# Altium footprint library Connectors.PcbLib: 35 footprints (part 2 of 3)
Each footprint in its own frame and in the unit in brackets; x right, y up, seen from the top. Pads: shape width x height; smd on the part's side, far side on the other; paste and mask are expansions set on the pad; w line width, h text height; cw(c..) or ccw(c..) is an arc to the next point about the centre after c.
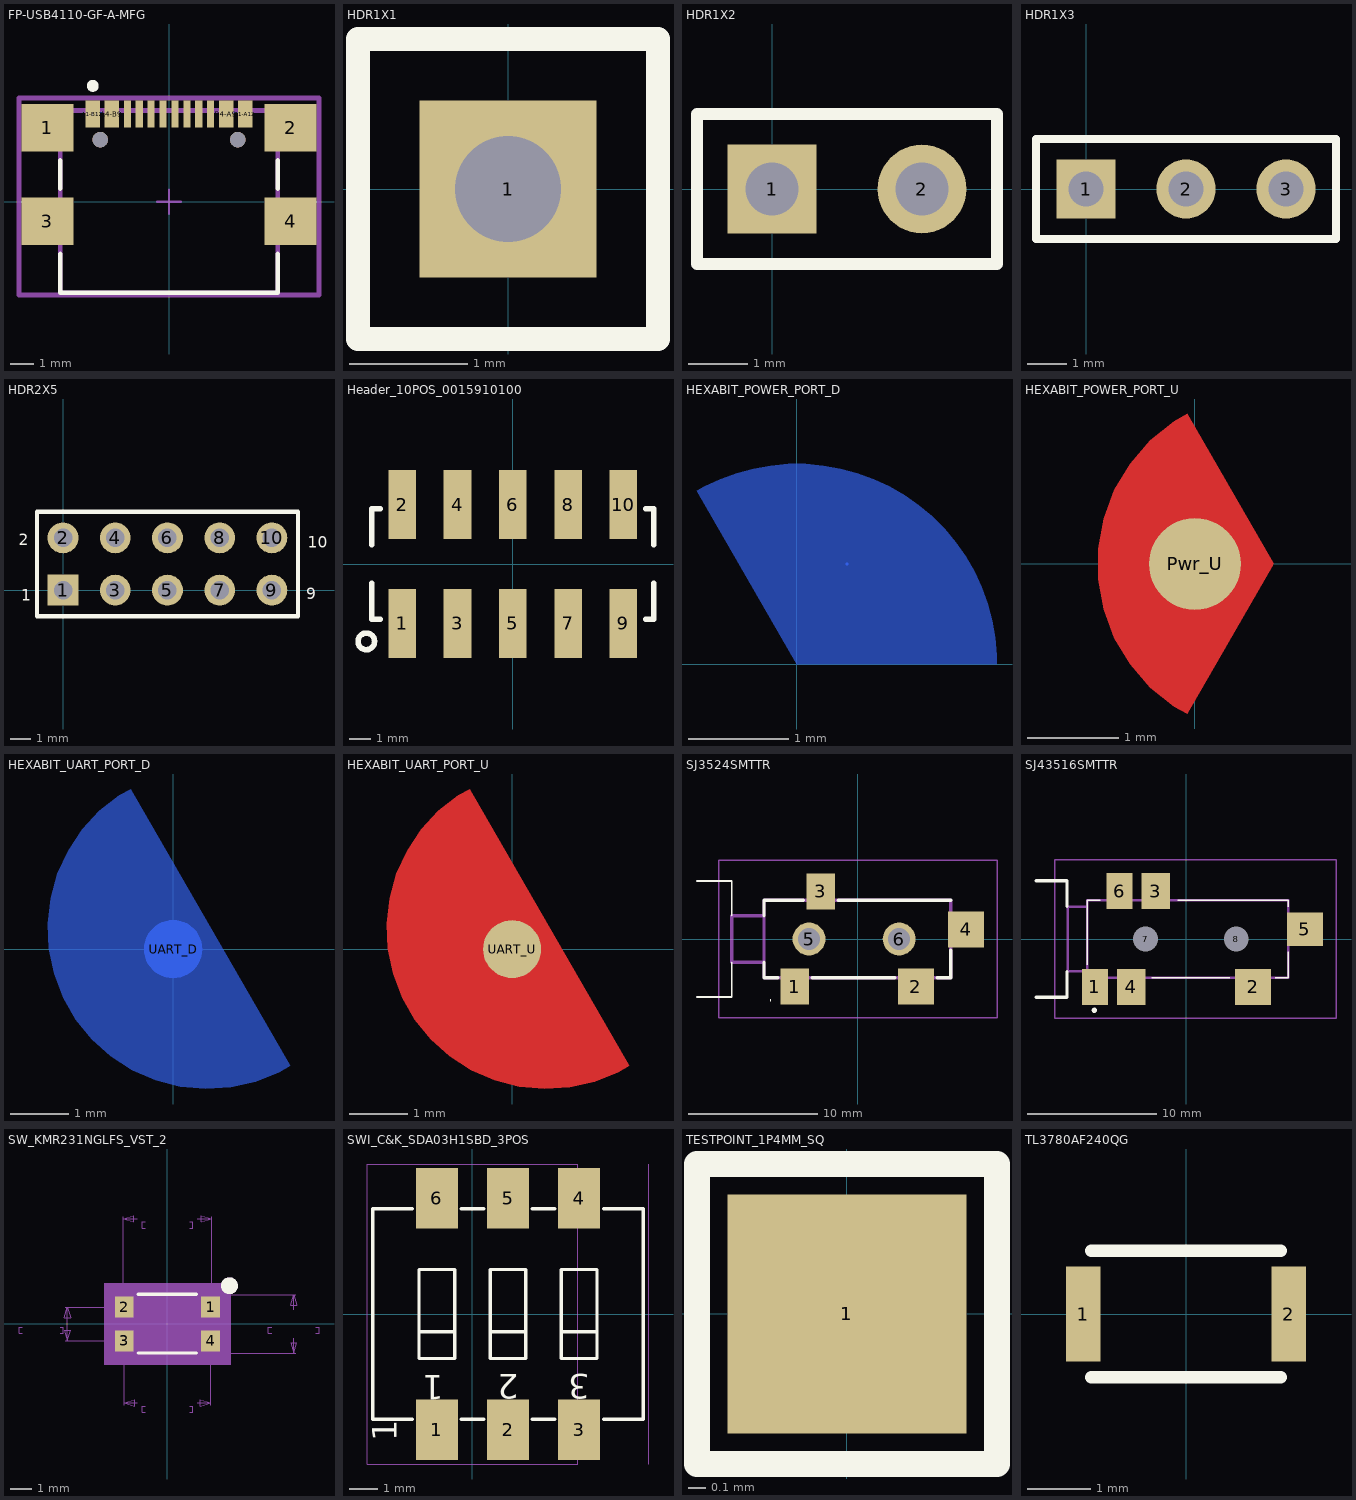
[diagram p1: the footprints below, top view; thin cyan lines are the x and y axes]

## FP-USB4110-GF-A-MFG [mm]
pads (18):
  rect 2.18x2 smd paste+0 mask+0.025: 1(-5.11,3.105) 2(5.11,3.105) 3(-5.11,-0.825) 4(5.11,-0.825)
  rect 0.6x1.15 smd paste+0 mask+0.025: A1-B12(-3.2,3.68) A4-B9(-2.4,3.68) B1-A12(3.2,3.68) B4-A9(2.4,3.68)
  rect 0.3x1.15 smd paste+0 mask+0.025: A5(-1.25,3.68) A6(-0.25,3.68) A7(0.25,3.68) A8(1.25,3.68) B5(1.75,3.68) B6(0.75,3.68) B7(-0.75,3.68) B8(-1.75,3.68)
  round 0.65 hole 0.65 unplated paste-2539.97 mask+0.025: ""(-2.89,2.605) ""(2.89,2.605)
Top Overlay:
  circle w0.25: c-3.201,4.865 r0.125
  lines w0.2: -4.57,-2.2 -4.57,-3.825 4.57,-3.825 4.57,-2.2 ; -4.57,0.55 -4.57,1.73 ; 4.57,0.55 4.57,1.73
Top Courtyard:
  lines w0.2: -6.3,-3.925 -6.3,4.355 6.3,4.355 6.3,-3.925 -6.3,-3.925
Top 3D Body:
  lines w0.2: -4.57,-3.825 -4.57,3.825 4.57,3.825 4.57,-3.825 -4.57,-3.825
Top Assembly:
  lines w0.2: -6.3,-3.925 -6.3,4.355 6.3,4.355 6.3,-3.925 -6.3,-3.925
  text ".Designator" at 0,0.403 h1
Top Component Center:
  lines w0.1: -0.5,0 0.5,0 ; 0,-0.5 0,0.5
3D body "Conn_GCT_USB4110-GF-A_eec.STEP": height 0.25, standoff 0, extent -6.3,-3.925 6.3,4.355

## HDR1X1 [mm]
pads (1):
  rect 1.5x1.5 hole 0.9: 1(0,0)
Top Overlay:
  lines w0.2: -1.27,-1.27 -1.27,1.27 1.27,1.27 1.27,-1.27 -1.27,-1.27

## HDR1X2 [mm]
pads (2):
  rect 1.5x1.5 hole 0.9: 1(0,0)
  round 1.5 hole 0.9: 2(2.54,0)
Top Overlay:
  lines w0.2: -1.27,-1.27 3.81,-1.27 3.81,1.27 -1.27,1.27 -1.27,-1.27

## HDR1X3 [mm]
pads (3):
  rect 1.5x1.5 hole 0.9: 1(0,0)
  round 1.5 hole 0.9: 2(2.54,0) 3(5.08,0)
Top Overlay:
  lines w0.2: -1.27,-1.27 -1.27,1.27 6.35,1.27 6.35,-1.27 -1.27,-1.27

## HDR2X5 [mm]
pads (10):
  rect 1.5x1.5 hole 0.9: 1(0,0)
  round 1.5 hole 0.9: 2(0,2.54) 3(2.54,0) 4(2.54,2.54) 5(5.08,0) 6(5.08,2.54) 7(7.62,0) 8(7.62,2.54) 9(10.16,0) 10(10.16,2.54)
Top Overlay:
  lines w0.2: -1.27,-1.27 -1.27,3.81 11.43,3.81 11.43,-1.27 -1.27,-1.27
  text "2" at -2.14,2.193 h0.56
  text "1" at -2.032,-0.508 h0.56
  text "9" at 11.828,-0.452 h0.56
  text "10" at 11.89,2.062 h0.56

## Header_10POS_0015910100 [mm]
pads (10):
  rect 1.27x3.18 smd: 1(-5.08,-2.73) 2(-5.08,2.73) 3(-2.54,-2.73) 4(-2.54,2.73) 5(0,-2.73) 6(0,2.73) 7(2.54,-2.73) 8(2.54,2.73) 9(5.08,-2.73) 10(5.08,2.73)
Top Overlay:
  circle w0.254: c-6.731,-3.556 r0.381
  lines w0.254: -6.477,-0.889 -6.477,-2.54 -6.1,-2.54 ; -6.477,0.889 -6.477,2.54 -6.1,2.54 ; 6.1,-2.54 6.477,-2.54 6.477,-0.889 ; 6.1,2.54 6.461,2.54 6.477,2.54 6.477,0.889
3D body "0015910100.stp": height 9.65, standoff 0, extent -6.35,-3.492 6.35,3.492

## HEXABIT_POWER_PORT_D [mm]
pads (1):
  round 0.025 smd far side: Pwr_D(0.5,1)
Bottom Layer:
  region: -1,1.732 -0.924,1.776 -0.766,1.85 -0.602,1.909 -0.433,1.954 -0.261,1.985 -0.087,2 0.087,2 0.261,1.985 0.433,1.954 0.602,1.909 0.766,1.85 0.924,1.776 1.076,1.688 1.219,1.588 1.352,1.476 1.476,1.352 1.588,1.219 1.688,1.076 1.776,0.924 1.85,0.766 1.909,0.602 1.954,0.433 1.985,0.261 2,0.087 2,0 0,0

## HEXABIT_POWER_PORT_U [mm]
pads (1):
  rrect100% 1x1 smd paste+0: Pwr_U(0,0)
Top Layer:
  region: -0.081,-1.631 -0.228,-1.552 -0.487,-1.343 -0.706,-1.092 -0.876,-0.806 -0.993,-0.494 -1.052,-0.167 -1.052,0.167 -0.993,0.494 -0.876,0.806 -0.706,1.092 -0.487,1.343 -0.228,1.552 -0.081,1.631 0.858,0
Top Solder:
  region: -0.081,-1.631 -0.228,-1.552 -0.487,-1.343 -0.706,-1.092 -0.876,-0.806 -0.993,-0.494 -1.052,-0.167 -1.052,0.167 -0.993,0.494 -0.876,0.806 -0.706,1.092 -0.487,1.343 -0.228,1.552 -0.081,1.631 0.858,0

## HEXABIT_UART_PORT_D [mm]
pads (1):
  rrect100% 1x1 smd far side paste+0: UART_D(0,0)
Bottom Layer:
  region: 2.018,-2.008 1.83,-2.121 1.424,-2.284 0.997,-2.382 0.559,-2.41 0.123,-2.369 -0.301,-2.259 -0.702,-2.084 -1.071,-1.847 -1.398,-1.555 -1.674,-1.215 -1.893,-0.835 -2.049,-0.426 -2.138,0.003 -2.159,0.441 -2.11,0.876 -1.992,1.298 -1.81,1.696 -1.566,2.061 -1.268,2.382 -0.923,2.652 -0.731,2.758
Bottom Solder:
  region: 1.518,-1.138 1.369,-1.23 1.04,-1.351 0.693,-1.405 0.343,-1.388 0.003,-1.302 -0.314,-1.151 -0.593,-0.94 -0.826,-0.677 -1.001,-0.373 -1.113,-0.041 -1.157,0.307 -1.13,0.657 -1.035,0.994 -0.874,1.306 -0.655,1.58 -0.386,1.804 -0.232,1.888

## HEXABIT_UART_PORT_U [mm]
pads (1):
  rrect100% 1x1 smd paste+0: UART_U(0,0)
Top Layer:
  region: 2.018,-2.008 1.83,-2.121 1.424,-2.284 0.997,-2.382 0.559,-2.41 0.123,-2.369 -0.301,-2.259 -0.702,-2.084 -1.071,-1.847 -1.398,-1.555 -1.674,-1.215 -1.893,-0.835 -2.049,-0.426 -2.138,0.003 -2.159,0.441 -2.11,0.876 -1.992,1.298 -1.81,1.696 -1.566,2.061 -1.268,2.382 -0.923,2.652 -0.731,2.758
Top Solder:
  region: 1.518,-1.138 1.369,-1.23 1.04,-1.351 0.693,-1.405 0.343,-1.388 0.003,-1.302 -0.314,-1.151 -0.593,-0.94 -0.826,-0.677 -1.001,-0.373 -1.113,-0.041 -1.157,0.307 -1.13,0.657 -1.035,0.994 -0.874,1.306 -0.655,1.58 -0.386,1.804 -0.232,1.888

## SJ3524SMTTR [mm]
pads (6):
  rect 2.2x2.8 smd: 1(-4.9,-3.7) 3(-2.9,3.7)
  rect 2.8x2.8 smd: 2(4.5,-3.7) 4(8.4,0.75)
  round 2.55 hole 1.7: 5(-3.8,0) 6(3.2,0)
Top Overlay:
  lines w0.072: -6.825,-4.76 ccw(c-6.789,-4.76) -6.753,-4.76 ccw(c-6.789,-4.76) -6.825,-4.76
  lines w0.127: -12.5,-4.5 -9.8,-4.5 -9.8,-1.8 ; -12.5,4.5 -9.8,4.5 -9.8,1.8
  lines w0.254: -7.3,-1.8 -7.3,-3 -6.237,-3 ; -7.3,1.8 -7.3,3 -4.24,3 ; -3.575,-3 2.868,-3 ; -1.55,3 7.2,3 ; 6.139,-3 7.2,-3 7.2,-0.88
Mechanical 13:
  lines w0.254: -7.3,-1.8 -9.8,-1.8 -9.8,1.8 -7.3,1.8 ; -7.3,-3 7.2,-3 7.2,3 -7.3,3 -7.3,-3
Mechanical 15:
  lines w0.1: -10.8,-6.1 10.8,-6.1 10.8,6.1 -10.8,6.1 -10.8,-6.1
3D body "SJ-3524-SMT-TR.stp": height 5.13, standoff -0.67, extent -9.779,-4.504 9.221,4.496

## SJ43516SMTTR [mm]
pads (8):
  rect 2x2.8 smd: 1(-7.05,-3.7) 6(-5.15,3.7)
  rect 2.8x2.8 smd: 2(5.15,-3.7)
  rect 2.2x2.8 smd: 3(-2.35,3.7) 4(-4.25,-3.7)
  rect 2.8x2.6 smd: 5(9.15,0.75)
  round 0.85 hole 1.9 unplated: 7(-3.15,0) 8(3.85,0)
Top Overlay:
  lines w0.1: -7.65,-2 -7.65,3 -6.65,3 ; -2.65,-3 3.35,-3 ; -0.65,3 7.85,3 7.85,2.5 ; 6.85,-3 7.85,-3 7.85,-1
  lines w0.2: -7.2,-5.5 cw(c-7.1,-5.5) -7,-5.5 cw(c-7.1,-5.5) -7.2,-5.5
  lines w0.254: -11.6,-4.5 -9.2,-4.5 -9.2,-2.5 ; -11.6,4.5 -9.2,4.5 -9.2,2.5
Mechanical 13:
  lines w0.2: -7.65,-2.5 -9.15,-2.5 -9.15,2.5 -7.65,2.5 ; -7.65,-3 -7.65,3 7.85,3 7.85,-3 -7.65,-3
Mechanical 15:
  lines w0.1: -10.15,-6.1 -10.15,6.1 11.55,6.1 11.55,-6.1 -10.15,-6.1
3D body "SJ-43516-SMT-TR.stp": height 5, standoff -1, extent -9.25,-4.5 10.25,4.5

## SW_KMR231NGLFS_VST_2 [mm]
pads (4):
  rect 0.9x1 smd: 1(2.05,0.8) 2(-2.05,0.8) 3(-2.05,-0.8) 4(2.05,-0.8)
Top Overlay:
  circle w0.4: c2.945,1.817 r0.2
  lines w0.15: -1.383,-1.384 1.387,-1.384 ; -1.383,1.416 1.387,1.416
Bottom 3D Body:
  lines w0.025: -6.9,-0.45 -7.05,-0.45 -7.05,-0.15 -6.9,-0.15 ; -5.1,-0.45 -4.95,-0.45 -4.95,-0.15 -5.1,-0.15 ; -4.85,-0.8 -2.15,-0.8 ; -4.85,0.8 -2.15,0.8 ; -4.75,-0.825 -4.75,-0.8 ; -2.1,1.5 -2.1,5.1 ; -2.05,-3.85 -2.05,-0.9 ; -1.425,-3.75 -2.05,-3.75 ; -1.425,5 -2.1,5 ; -1.05,-4.2 -1.2,-4.2 -1.2,-3.9 -1.05,-3.9 ; -1.05,4.55 -1.2,4.55 -1.2,4.85 -1.05,4.85 ; 1.05,-4.2 1.2,-4.2 1.2,-3.9 1.05,-3.9 ; 1.05,4.55 1.2,4.55 1.2,4.85 1.05,4.85 ; 1.425,-3.75 2.05,-3.75 ; 1.425,5 2.1,5 ; 2.05,-3.85 2.05,-0.9 ; 2.1,1.5 2.1,5.1 ; 2.2,-1.4 6.1,-1.4 ; 2.2,1.4 6.1,1.4 ; 4.95,-0.45 4.8,-0.45 4.8,-0.15 4.95,-0.15 ; 6,-0.675 6,-1.4 ; 6,0.675 6,1.4 ; 7.05,-0.45 7.2,-0.45 7.2,-0.15 7.05,-0.15 ; -4.75,-0.8 -4.6,-0.3 -4.9,-0.3 -4.75,-0.8 ; -4.75,-0.8 -4.75,0.8 ; -4.75,0.8 -4.9,0.3 -4.6,0.3 -4.75,0.8 ; -2.1,5 -1.6,4.85 -1.6,5.15 -2.1,5 ; -2.05,-3.75 -1.55,-3.9 -1.55,-3.6 -2.05,-3.75 ; 2.05,-3.75 1.55,-3.6 1.55,-3.9 2.05,-3.75 ; 2.1,5 1.6,5.15 1.6,4.85 2.1,5 ; 6,-1.4 6.15,-0.9 5.85,-0.9 6,-1.4 ; 6,1.4 5.85,0.9 6.15,0.9 6,1.4
  text "4.2" at -0.45,5.15 h0.25
  text "165.35" at -0.9,4.55 h0.25
  text "2.8" at 5.55,0.15 h0.25
  text "110.24" at 5.1,-0.45 h0.25
  text "4.1" at -0.45,-3.6 h0.25
  text "161.42" at -0.9,-4.2 h0.25
  text "1.6" at -6.45,0.15 h0.25
  text "62.99" at -6.75,-0.45 h0.25
Top Assembly:
  circle w0.076: c0,-0.4 r0.1
  circle w0.076: c0,0.6 r0.1
  circle w0.076: c1.4,-0.8 r0.1
  circle w0.076: c-1.4,-0.8 r0.1
  circle w0.076: c1.4,0.9 r0.1
  circle w0.076: c-1.4,0.9 r0.1
  circle w0.076: c2.573,0.776 r0.2
  lines w0.076: -1.3,-0.8 1.3,-0.8 ; -1.3,0.9 1.3,0.9 ; 0,-0.8 0,-0.5 ; 0,0.5 0.4,-0.2 ; 0,0.7 0,0.9 ; -2.1,-1.4 2.1,-1.4 2.1,1.4 -2.1,1.4 -2.1,-1.4
Mechanical 32:
  text "2" at -2.152,0.8 h0.25
  text "1" at 1.948,0.8 h0.25
  text "3" at -2.152,-0.8 h0.25
  text "4" at 1.948,-0.8 h0.25
Mechanical 33:
  circle w0.4: c2.945,1.817 r0.2
  lines w0.15: -1.383,-1.384 1.387,-1.384 ; -1.383,1.416 1.387,1.416
  text "2" at -3.213,0.876 h0.64
  text "4" at 2.311,-1.905 h0.64
  text "SW4" at -0.813,1.88 h0.64
  text "3" at -3.188,-1.079 h0.64
Mechanical 35:
  text "R90_100" at -2.484,-5.375 h0.79
Mechanical 37:
  dashed: -3.01,-1.935 3.01,-1.935 3.01,1.935 -3.01,1.935
Mechanical 40:
  text "SW_KMR231NGLFS_VST" at -5.669,6.233 h0.79
Mechanical 255:
  text ".Designator" at -0.876,1.816 h0.64
3D body "KMR231NGLFS--3DModel-STEP-56544.STEP": height 1.9, standoff 0, extent -2.3,-1.4 2.3,1.4

## SWI_C&K_SDA03H1SBD_3POS [mm]
height 5.45
pads (6):
  rect 1.5x2.15 smd mask+0.05: 1(-1.27,-4.125) 2(1.27,-4.125) 3(3.81,-4.125) 4(3.81,4.125) 5(1.27,4.125) 6(-1.27,4.125)
Top Overlay:
  lines w0.12: -2.15,-3.75 -3.55,-3.75 -3.55,3.75 -2.15,3.75 ; -1.905,-0.635 -0.635,-0.635 ; -0.4,-3.75 0.4,-3.75 ; -0.4,3.75 0.4,3.75 ; 0.635,-0.635 1.905,-0.635 ; 2.14,-3.75 2.94,-3.75 ; 2.14,3.75 2.94,3.75 ; 3.175,-0.635 4.445,-0.635 ; 4.69,-3.75 6.09,-3.75 6.09,3.75 4.69,3.75 ; -1.905,-1.587 -0.635,-1.587 -0.635,1.587 -1.905,1.587 -1.905,-1.587 ; 0.635,-1.587 0.635,1.587 1.905,1.587 1.905,-1.587 0.635,-1.587 ; 3.175,-1.587 3.175,1.587 4.445,1.587 4.445,-1.587 3.175,-1.587
  text "3" at 4.193,-1.859 h1.5
  text "1" at -2.413,-4.536 h1.5
  text "2" at 1.653,-1.859 h1.5
  text "1" at -1.024,-1.891 h1.5
Mechanical 16:
  lines w0.01: 6.29,-5.35 6.29,5.35 ; -3.75,-5.35 3.75,-5.35 3.75,5.35 -1.725,5.35 -3.725,5.35 -3.75,5.35 -3.75,-5.35
Mechanical 255:
  text "'.Designator'" at 0.5,-2 h0.75
3D body "SDA03H1SBD.stp": height 5.55, standoff 0.05, extent -3.52,-4.573 6.081,4.727

## TESTPOINT_1P4MM_SQ [mil] "TESTPOINT_1P4MM_SQ"
pads (1):
  rect 55x55 smd: 1(0,0)
Top Overlay:
  lines w6: -34.56,-34.56 34.56,-34.56 34.56,34.56 -34.56,34.56 -34.56,-34.56
  text ".Designator" at -120,-90 h35

## TL3780AF240QG [mm]
pads (2):
  rect 0.55x1.5 smd mask+0.05: 1(-1.625,0) 2(1.625,0)
Top Overlay:
  lines w0.2: -1.5,-1 1.5,-1 ; -1.5,1 1.5,1
3D body "TL3780AFxxxQG.stp": height 0.6, standoff 0, extent -1.75,-1 1.75,1